# Altium integrated library Analog Devices Data Converters Digital-to-Analog Converters.IntLib: 2231 symbols (part 136 of 181)
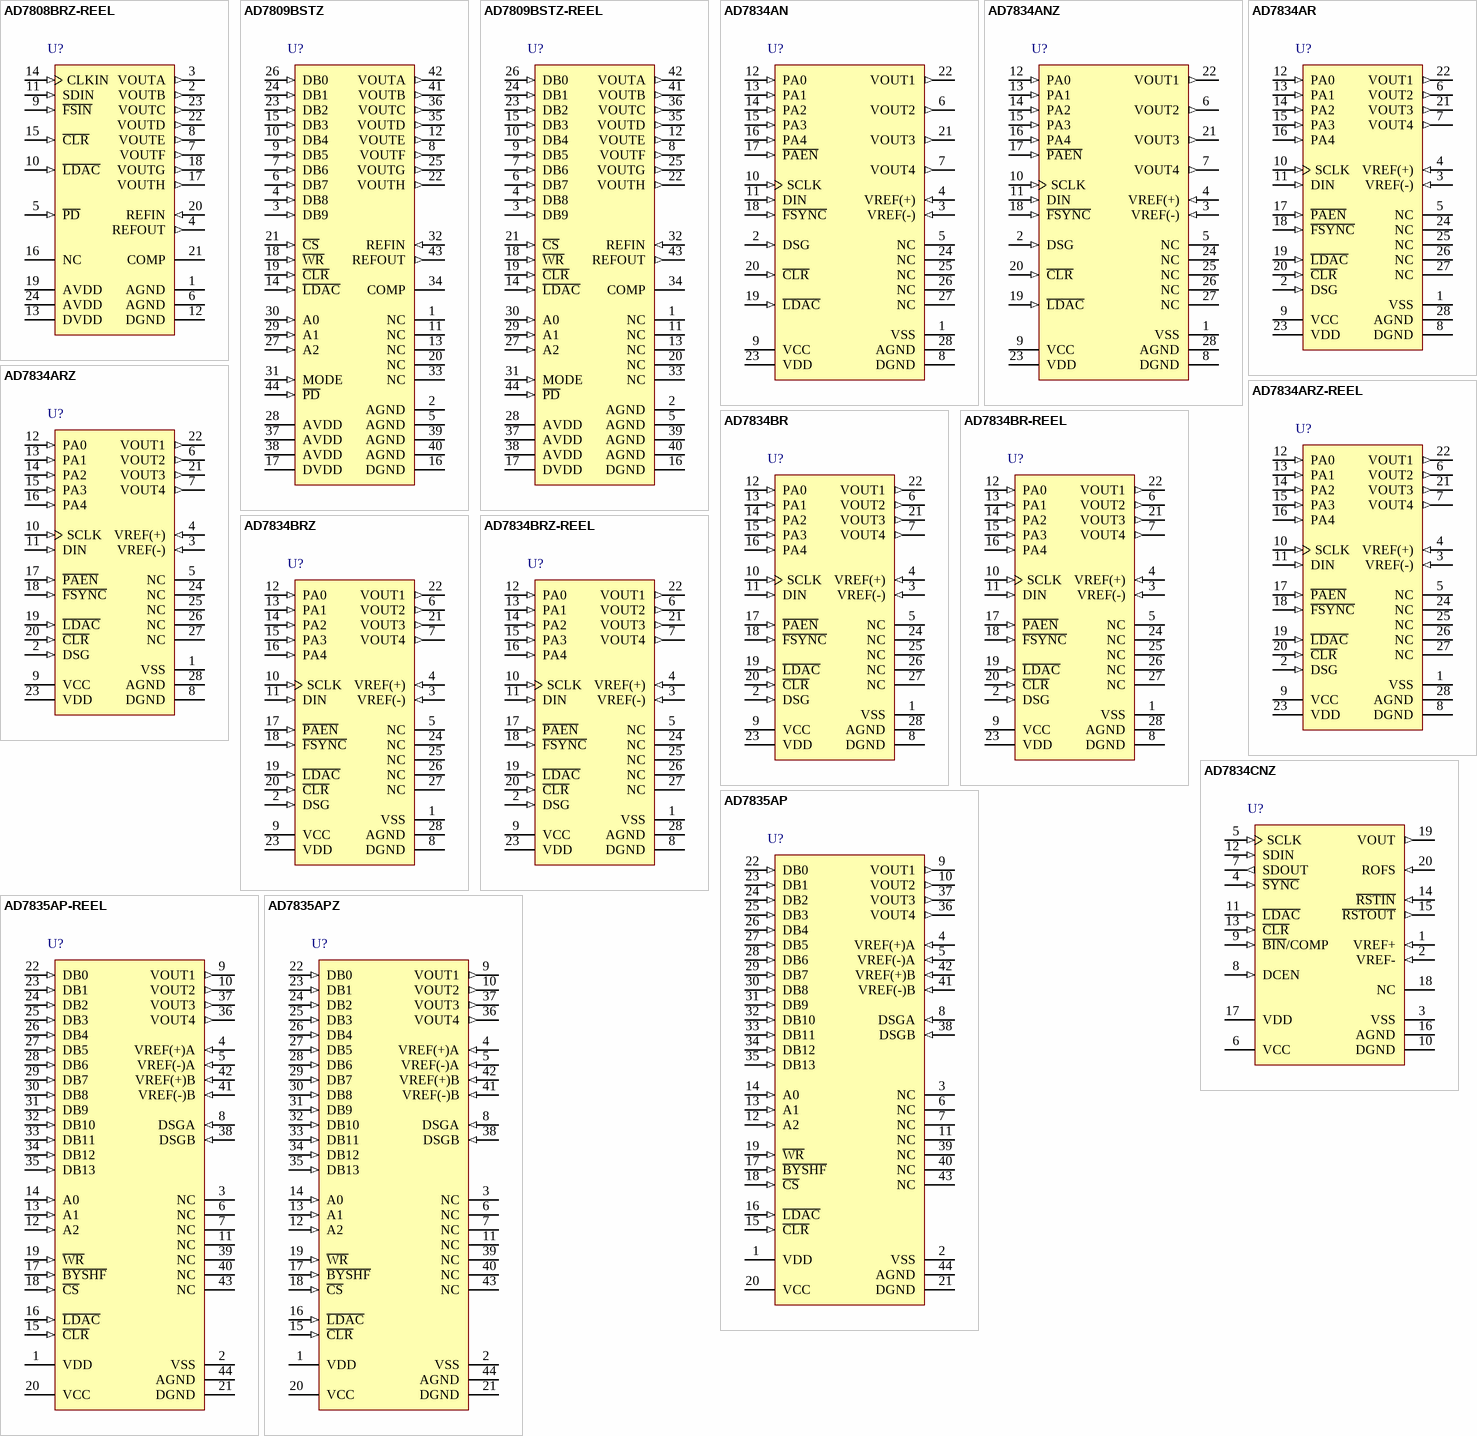
[diagram p249: symbols AD7808BRZ-REEL to AD7835APZ]

## AD7835AP
designator U?
Quad 14-Bit LC2MOS Digital-to-Analog Converter, -40 to +85 degC, P-44A, Tube; Generic Part Number: AD7835; Manufacturer: Analog Devices; PartNumber: AD7835AP; # DAC Outputs: 4; Max V+: 15.75V; Op Pwr Diss: 465mW; Resolution (Bits): 14; Settling Time: 10µs; Single Supply: No; DatasheetVersion: Rev.D; PackageVersion: 2003; PackageReference: P-44A; PackageDescription: 44-Lead Plastic Leaded Chip Carrier [PLCC]; Supplier 1: Digi-Key; Supplier Part Number 1: AD7835AP-ND; Supplier 2: Mouser; Supplier Part Number 2: 584-AD7835AP; Packing: Tube; RoHS: N; Mounting Technology: Surface Mount; Code_JEDEC: MO-047-AC; Code_IPC: PLCC-44; ComponentLink1Description: Manufacturer URL; ComponentLink1URL: http://www.analog.com/en/index.html; ComponentLink2Description: Datasheet; ComponentLink2URL: http://www.analog.com/static/imported-files/data_sheets/AD7834_7835.pdf; ComponentLink3Description: Package Specification; ComponentLink3URL: http://www.analog.com/static/imported-files/packages/533756178731793364534243243792136664964P44A.pdf; ComponentLink4Description: Product URL; ComponentLink4URL: http://www.analog.com/en/digital-to-analog-converters/da-converters/ad7835/products/product.html
footprint P-44A_N (Leaded Chip Carrier, 44-Leads, Body 16.6x16.6mm, Pitch 1.27mm, IPC Medium Density)
footprint P-44A_L (Leaded Chip Carrier, 44-Leads, Body 16.6x16.6mm, Pitch 1.27mm, IPC High Density)
footprint P-44A_M (Leaded Chip Carrier, 44-Leads, Body 16.6x16.6mm, Pitch 1.27mm, IPC Low Density)
pins: 1 VDD (power) "Positive Analog Power Supply: 15 V +/- 5% or 12 V +/- 5%.", 2 VSS (power) "Negative Analog Power Supply: -15 V +/- 5% or -12 V +/- 5%.", 3 NC "No Connect.", 4 VREF(+)A (in) "Reference Input for DAC 1 and DAC 2. These reference voltages are referred to AGND.", 5 VREF(-)A (in) "Reference Input for DAC 1 and DAC 2. These reference voltages are referred to AGND.", 6 NC "No Connect.", 7 NC "No Connect.", 8 DSGA (in) "Device Sense Ground A Input. Used in conjunction with the C\L\R\ input for power-on protection of the DACs. When C\L\R\ is low, DAC outputs VOUT1 and VOUT2 are forced to the potential on the DSGA pin.", 9 VOUT1 (out) "DAC Output.", 10 VOUT2 (out) "DAC Output.", 11 NC "No Connect.", 12 A2 (in) "Address Input. A0 and A1 are decoded to select one of the four input latches for a data transfer. A2 is used to select all four DACs simultaneously.", 13 A1 (in) "Address Input. A0 and A1 are decoded to select one of the four input latches for a data transfer. A2 is used to select all four DACs simultaneously.", 14 A0 (in) "Address Input. A0 and A1 are decoded to select one of the four input latches for a data transfer. A2 is used to select all four DACs simultaneously.", 15 ~{CLR} (in) "Asynchronous Clear Input (Level Sensitive, Active Low). When this input is brought low, all analog outputs are switched to the externally set potentials on the DSG pins (VOUT1 and VOUT2 follow DSGA, and VOUT3 and VOUT4 (See Datasheet)", 16 ~{LDAC} (in) "Load DAC Input (Level Sensitive). This input signal, in conjunction with the W\R\ and C\S\ input signals, determines how the analog outputs are updated. If L\D\A\C\ is maintained high while new data is being loaded into the (See Datasheet)", 17 ~{BYSHF} (in) "Byte Shift Input. When low, it shifts the data on DB0 to DB7 into the DB8 to DB13 half of the input register.", 18 ~{CS} (in) "Level-Triggered Chip Select Input (Active Low). The device is selected when this input is low.", 19 ~{WR} (in) "Level-Triggered Write Input (Active Low). When active, it is used in conjunction with C\S\ to write data over the input databus.", 20 VCC (power) "Logic Power Supply: 5 V +/- 5%.", 21 DGND (power) "Digital Ground.", 22 DB0 (in) "Parallel Data Input.", 23 DB1 (in) "Parallel Data Input.", 24 DB2 (in) "Parallel Data Input.", 25 DB3 (in) "Parallel Data Input.", 26 DB4 (in) "Parallel Data Input.", 27 DB5 (in) "Parallel Data Input.", 28 DB6 (in) "Parallel Data Input.", 29 DB7 (in) "Parallel Data Input.", 30 DB8 (in) "Parallel Data Input.", 31 DB9 (in) "Parallel Data Input.", 32 DB10 (in) "Parallel Data Input.", 33 DB11 (in) "Parallel Data Input.", 34 DB12 (in) "Parallel Data Input.", 35 DB13 (in) "Parallel Data Input.", 36 VOUT4 (out) "DAC Output.", 37 VOUT3 (out) "DAC Output.", 38 DSGB (in) "Device Sense Ground B Input. Used in conjunction with the C\L\R\ input for power-on protection of the DACs. When C\L\R\ is low, DAC outputs VOUT3 and VOUT4 are forced to the potential on the DSGB pin.", 39 NC "No Connect.", 40 NC "No Connect.", 41 VREF(-)B (in) "Reference Inputs for DACs 3 and 4. These reference voltages are referred to AGND.", 42 VREF(+)B (in) "Reference Inputs for DACs 3 and 4. These reference voltages are referred to AGND.", 43 NC "No Connect.", 44 AGND (power) "Analog Ground."

## AD7835AP-REEL
designator U?
Quad 14-Bit LC2MOS Digital-to-Analog Converter, -40 to +85 degC, P-44A, Reel; Generic Part Number: AD7835; Manufacturer: Analog Devices; PartNumber: AD7835AP-REEL; # DAC Outputs: 4; Max V+: 15.75V; Op Pwr Diss: 465mW; Resolution (Bits): 14; Settling Time: 10µs; Single Supply: No; DatasheetVersion: Rev.D; PackageVersion: 2003; PackageReference: P-44A; PackageDescription: 44-Lead Plastic Leaded Chip Carrier [PLCC]; Supplier 1: Mouser; Supplier Part Number 1: N/A; Packing: Reel; RoHS: N; Mounting Technology: Surface Mount; Code_JEDEC: MO-047-AC; Code_IPC: PLCC-44; ComponentLink1Description: Manufacturer URL; ComponentLink1URL: http://www.analog.com/en/index.html; ComponentLink2Description: Datasheet; ComponentLink2URL: http://www.analog.com/static/imported-files/data_sheets/AD7834_7835.pdf; ComponentLink3Description: Package Specification; ComponentLink3URL: http://www.analog.com/static/imported-files/packages/533756178731793364534243243792136664964P44A.pdf; ComponentLink4Description: Product URL; ComponentLink4URL: http://www.analog.com/en/digital-to-analog-converters/da-converters/ad7835/products/product.html
footprint P-44A_N (Leaded Chip Carrier, 44-Leads, Body 16.6x16.6mm, Pitch 1.27mm, IPC Medium Density)
footprint P-44A_L (Leaded Chip Carrier, 44-Leads, Body 16.6x16.6mm, Pitch 1.27mm, IPC High Density)
footprint P-44A_M (Leaded Chip Carrier, 44-Leads, Body 16.6x16.6mm, Pitch 1.27mm, IPC Low Density)
pins: 1 VDD (power) "Positive Analog Power Supply: 15 V +/- 5% or 12 V +/- 5%.", 2 VSS (power) "Negative Analog Power Supply: -15 V +/- 5% or -12 V +/- 5%.", 3 NC "No Connect.", 4 VREF(+)A (in) "Reference Input for DAC 1 and DAC 2. These reference voltages are referred to AGND.", 5 VREF(-)A (in) "Reference Input for DAC 1 and DAC 2. These reference voltages are referred to AGND.", 6 NC "No Connect.", 7 NC "No Connect.", 8 DSGA (in) "Device Sense Ground A Input. Used in conjunction with the C\L\R\ input for power-on protection of the DACs. When C\L\R\ is low, DAC outputs VOUT1 and VOUT2 are forced to the potential on the DSGA pin.", 9 VOUT1 (out) "DAC Output.", 10 VOUT2 (out) "DAC Output.", 11 NC "No Connect.", 12 A2 (in) "Address Input. A0 and A1 are decoded to select one of the four input latches for a data transfer. A2 is used to select all four DACs simultaneously.", 13 A1 (in) "Address Input. A0 and A1 are decoded to select one of the four input latches for a data transfer. A2 is used to select all four DACs simultaneously.", 14 A0 (in) "Address Input. A0 and A1 are decoded to select one of the four input latches for a data transfer. A2 is used to select all four DACs simultaneously.", 15 ~{CLR} (in) "Asynchronous Clear Input (Level Sensitive, Active Low). When this input is brought low, all analog outputs are switched to the externally set potentials on the DSG pins (VOUT1 and VOUT2 follow DSGA, and VOUT3 and VOUT4 (See Datasheet)", 16 ~{LDAC} (in) "Load DAC Input (Level Sensitive). This input signal, in conjunction with the W\R\ and C\S\ input signals, determines how the analog outputs are updated. If L\D\A\C\ is maintained high while new data is being loaded into the (See Datasheet)", 17 ~{BYSHF} (in) "Byte Shift Input. When low, it shifts the data on DB0 to DB7 into the DB8 to DB13 half of the input register.", 18 ~{CS} (in) "Level-Triggered Chip Select Input (Active Low). The device is selected when this input is low.", 19 ~{WR} (in) "Level-Triggered Write Input (Active Low). When active, it is used in conjunction with C\S\ to write data over the input databus.", 20 VCC (power) "Logic Power Supply: 5 V +/- 5%.", 21 DGND (power) "Digital Ground.", 22 DB0 (in) "Parallel Data Input.", 23 DB1 (in) "Parallel Data Input.", 24 DB2 (in) "Parallel Data Input.", 25 DB3 (in) "Parallel Data Input.", 26 DB4 (in) "Parallel Data Input.", 27 DB5 (in) "Parallel Data Input.", 28 DB6 (in) "Parallel Data Input.", 29 DB7 (in) "Parallel Data Input.", 30 DB8 (in) "Parallel Data Input.", 31 DB9 (in) "Parallel Data Input.", 32 DB10 (in) "Parallel Data Input.", 33 DB11 (in) "Parallel Data Input.", 34 DB12 (in) "Parallel Data Input.", 35 DB13 (in) "Parallel Data Input.", 36 VOUT4 (out) "DAC Output.", 37 VOUT3 (out) "DAC Output.", 38 DSGB (in) "Device Sense Ground B Input. Used in conjunction with the C\L\R\ input for power-on protection of the DACs. When C\L\R\ is low, DAC outputs VOUT3 and VOUT4 are forced to the potential on the DSGB pin.", 39 NC "No Connect.", 40 NC "No Connect.", 41 VREF(-)B (in) "Reference Inputs for DACs 3 and 4. These reference voltages are referred to AGND.", 42 VREF(+)B (in) "Reference Inputs for DACs 3 and 4. These reference voltages are referred to AGND.", 43 NC "No Connect.", 44 AGND (power) "Analog Ground."

## AD7835APZ
designator U?
Quad 14-Bit LC2MOS Digital-to-Analog Converter, -40 to +85 degC, P-44A, Pb-Free, Tube; Generic Part Number: AD7835; Manufacturer: Analog Devices; PartNumber: AD7835APZ; # DAC Outputs: 4; Max V+: 15.75V; Op Pwr Diss: 465mW; Resolution (Bits): 14; Settling Time: 10µs; Single Supply: No; DatasheetVersion: Rev.D; PackageVersion: 2003; PackageReference: P-44A; PackageDescription: 44-Lead Plastic Leaded Chip Carrier [PLCC]; Supplier 1: Digi-Key; Supplier Part Number 1: AD7835APZ-ND; Supplier 2: Mouser; Supplier Part Number 2: 584-AD7835APZ; Packing: Tube; RoHS: Y; Mounting Technology: Surface Mount; Code_JEDEC: MO-047-AC; Code_IPC: PLCC-44; ComponentLink1Description: Manufacturer URL; ComponentLink1URL: http://www.analog.com/en/index.html; ComponentLink2Description: Datasheet; ComponentLink2URL: http://www.analog.com/static/imported-files/data_sheets/AD7834_7835.pdf; ComponentLink3Description: Package Specification; ComponentLink3URL: http://www.analog.com/static/imported-files/packages/533756178731793364534243243792136664964P44A.pdf; ComponentLink4Description: Product URL; ComponentLink4URL: http://www.analog.com/en/digital-to-analog-converters/da-converters/ad7835/products/product.html
footprint P-44A_N (Leaded Chip Carrier, 44-Leads, Body 16.6x16.6mm, Pitch 1.27mm, IPC Medium Density)
footprint P-44A_L (Leaded Chip Carrier, 44-Leads, Body 16.6x16.6mm, Pitch 1.27mm, IPC High Density)
footprint P-44A_M (Leaded Chip Carrier, 44-Leads, Body 16.6x16.6mm, Pitch 1.27mm, IPC Low Density)
pins: 1 VDD (power) "Positive Analog Power Supply: 15 V +/- 5% or 12 V +/- 5%.", 2 VSS (power) "Negative Analog Power Supply: -15 V +/- 5% or -12 V +/- 5%.", 3 NC "No Connect.", 4 VREF(+)A (in) "Reference Input for DAC 1 and DAC 2. These reference voltages are referred to AGND.", 5 VREF(-)A (in) "Reference Input for DAC 1 and DAC 2. These reference voltages are referred to AGND.", 6 NC "No Connect.", 7 NC "No Connect.", 8 DSGA (in) "Device Sense Ground A Input. Used in conjunction with the C\L\R\ input for power-on protection of the DACs. When C\L\R\ is low, DAC outputs VOUT1 and VOUT2 are forced to the potential on the DSGA pin.", 9 VOUT1 (out) "DAC Output.", 10 VOUT2 (out) "DAC Output.", 11 NC "No Connect.", 12 A2 (in) "Address Input. A0 and A1 are decoded to select one of the four input latches for a data transfer. A2 is used to select all four DACs simultaneously.", 13 A1 (in) "Address Input. A0 and A1 are decoded to select one of the four input latches for a data transfer. A2 is used to select all four DACs simultaneously.", 14 A0 (in) "Address Input. A0 and A1 are decoded to select one of the four input latches for a data transfer. A2 is used to select all four DACs simultaneously.", 15 ~{CLR} (in) "Asynchronous Clear Input (Level Sensitive, Active Low). When this input is brought low, all analog outputs are switched to the externally set potentials on the DSG pins (VOUT1 and VOUT2 follow DSGA, and VOUT3 and VOUT4 (See Datasheet)", 16 ~{LDAC} (in) "Load DAC Input (Level Sensitive). This input signal, in conjunction with the W\R\ and C\S\ input signals, determines how the analog outputs are updated. If L\D\A\C\ is maintained high while new data is being loaded into the (See Datasheet)", 17 ~{BYSHF} (in) "Byte Shift Input. When low, it shifts the data on DB0 to DB7 into the DB8 to DB13 half of the input register.", 18 ~{CS} (in) "Level-Triggered Chip Select Input (Active Low). The device is selected when this input is low.", 19 ~{WR} (in) "Level-Triggered Write Input (Active Low). When active, it is used in conjunction with C\S\ to write data over the input databus.", 20 VCC (power) "Logic Power Supply: 5 V +/- 5%.", 21 DGND (power) "Digital Ground.", 22 DB0 (in) "Parallel Data Input.", 23 DB1 (in) "Parallel Data Input.", 24 DB2 (in) "Parallel Data Input.", 25 DB3 (in) "Parallel Data Input.", 26 DB4 (in) "Parallel Data Input.", 27 DB5 (in) "Parallel Data Input.", 28 DB6 (in) "Parallel Data Input.", 29 DB7 (in) "Parallel Data Input.", 30 DB8 (in) "Parallel Data Input.", 31 DB9 (in) "Parallel Data Input.", 32 DB10 (in) "Parallel Data Input.", 33 DB11 (in) "Parallel Data Input.", 34 DB12 (in) "Parallel Data Input.", 35 DB13 (in) "Parallel Data Input.", 36 VOUT4 (out) "DAC Output.", 37 VOUT3 (out) "DAC Output.", 38 DSGB (in) "Device Sense Ground B Input. Used in conjunction with the C\L\R\ input for power-on protection of the DACs. When C\L\R\ is low, DAC outputs VOUT3 and VOUT4 are forced to the potential on the DSGB pin.", 39 NC "No Connect.", 40 NC "No Connect.", 41 VREF(-)B (in) "Reference Inputs for DACs 3 and 4. These reference voltages are referred to AGND.", 42 VREF(+)B (in) "Reference Inputs for DACs 3 and 4. These reference voltages are referred to AGND.", 43 NC "No Connect.", 44 AGND (power) "Analog Ground."

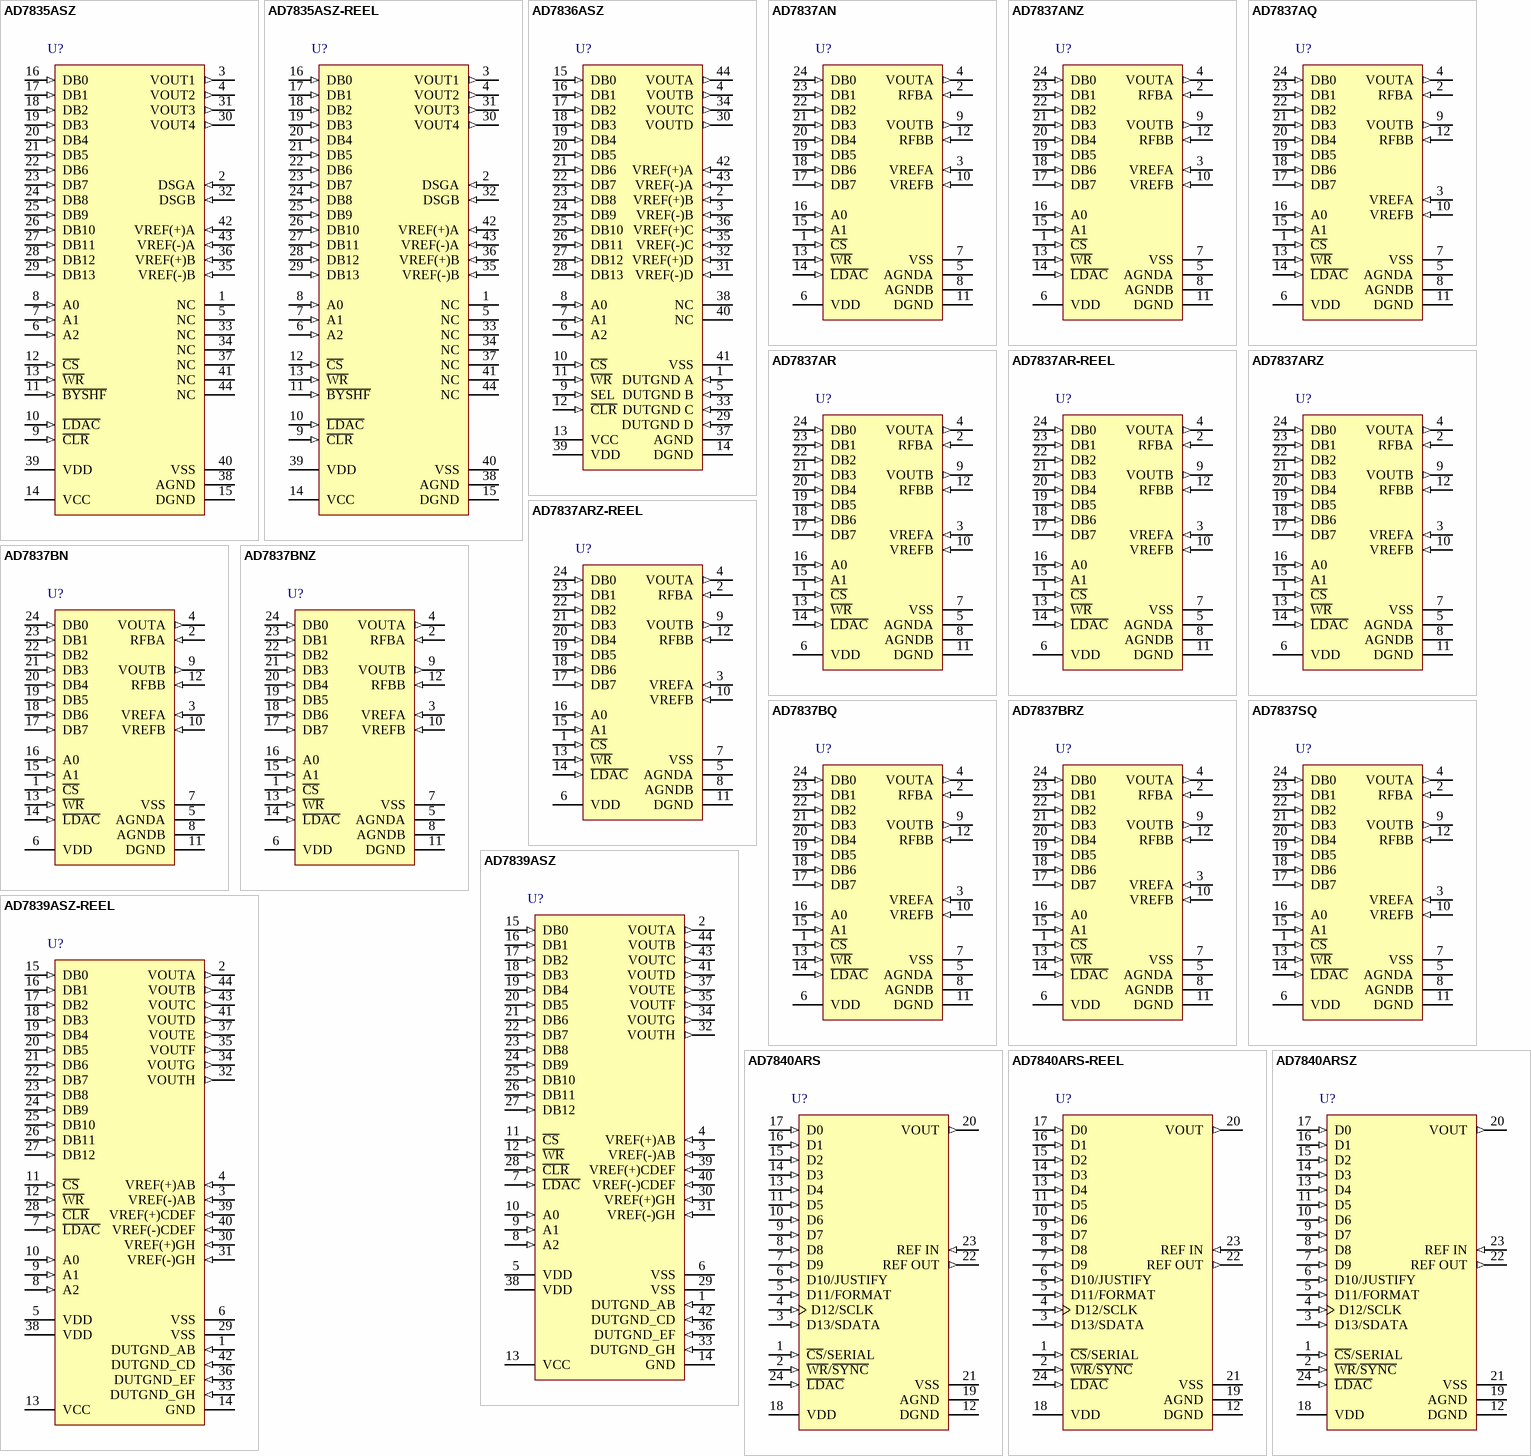
[diagram p75: symbols AD7835ASZ to AD7840ARSZ]

## AD7835ASZ
designator U?
Quad 14-Bit LC2MOS Digital-to-Analog Converter, 0 to +70 degC, S-44-2, Pb-Free, Tray; Generic Part Number: AD7835; Manufacturer: Analog Devices; PartNumber: AD7835ASZ; # DAC Outputs: 4; Max V+: 15.75V; Op Pwr Diss: 465mW; Resolution (Bits): 14; Settling Time: 10µs; Single Supply: No; DatasheetVersion: Rev.D; PackageVersion: 041807-A; PackageReference: S-44-2; PackageDescription: 44-Lead Metric Quad Flat Package [MQFP]; Supplier 1: Digi-Key; Supplier Part Number 1: AD7835ASZ-ND; Supplier 2: Newark; Supplier Part Number 2: 59K5624; Supplier 3: Mouser; Supplier Part Number 3: 584-AD7835ASZ; Packing: Tray; RoHS: Y; Mounting Technology: Surface Mount; Code_JEDEC: MO-122-AA-1; ComponentLink1Description: Manufacturer URL; ComponentLink1URL: http://www.analog.com/en/index.html; ComponentLink2Description: Datasheet; ComponentLink2URL: http://www.analog.com/static/imported-files/data_sheets/AD7834_7835.pdf; ComponentLink3Description: Package Specification; ComponentLink3URL: http://www.analog.com/static/imported-files/packages/209183S_44_2.pdf; ComponentLink4Description: Product URL; ComponentLink4URL: http://www.analog.com/en/digital-to-analog-converters/da-converters/ad7835/products/product.html
footprint S-44-2_N (QFP, 44-Leads, Body 10x10mm, Pitch 0.8mm, IPC Medium Density)
footprint S-44-2_L (QFP, 44-Leads, Body 10x10mm, Pitch 0.8mm, IPC High Density)
footprint S-44-2_M (QFP, 44-Leads, Body 10x10mm, Pitch 0.8mm, IPC Low Density)
pins: 1 NC "No Connect.", 2 DSGA (in) "Device Sense Ground A Input. Used in conjunction with the C\L\R\ input for power-on protection of the DACs. When C\L\R\ is low, DAC outputs VOUT1 and VOUT2 are forced to the potential on the DSGA pin.", 3 VOUT1 (out) "DAC Output.", 4 VOUT2 (out) "DAC Output.", 5 NC "No Connect.", 6 A2 (in) "Address Input. A2 is used to select all four DACs simultaneously.", 7 A1 (in) "Address Input. A1 is decoded to select one of the four input latches for a data transfer.", 8 A0 (in) "Address Input. A0 is decoded to select one of the four input latches for a data transfer.", 9 ~{CLR} (in) "Asynchronous Clear Input (Level Sensitive, Active Low). When this input is brought low, all analog outputs are switched to the externally set potentials on the DSG pins (VOUT1 and VOUT2 follow DSGA, and VOUT3 and VOUT4 (See Datasheet)", 10 ~{LDAC} (in) "Load DAC Input (Level Sensitive). This input signal, in conjunction with the W\R\ and C\S\ input signals, determines how the analog outputs are updated. If L\D\A\C\ is maintained high while new data is being loaded into the (See Datasheet)", 11 ~{BYSHF} (in) "Byte Shift Input. When low, it shifts the data on DB0 to DB7 into the DB8 to DB13 half of the input register.", 12 ~{CS} (in) "Level-Triggered Chip Select Input (Active Low). The device is selected when this input is low.", 13 ~{WR} (in) "Level-Triggered Write Input (Active Low). When active, it is used in conjunction with C\S\ to write data over the input databus.", 14 VCC (power) "Logic Power Supply: 5 V +/- 5%.", 15 DGND (power) "Digital Ground.", 16 DB0 (in) "Parallel Data Input. The AD7835 can accept a straight 14-bit parallel word on DB0 to DB13, where DB13 is the MSB and the B\Y\S\H\F\ input is hardwired to a logic high. Alternatively for byte loading, the bottom eight data (See Datasheet)", 17 DB1 (in) "Parallel Data Input. The AD7835 can accept a straight 14-bit parallel word on DB0 to DB13, where DB13 is the MSB and the B\Y\S\H\F\ input is hardwired to a logic high. Alternatively for byte loading, the bottom eight data (See Datasheet)", 18 DB2 (in) "Parallel Data Input. The AD7835 can accept a straight 14-bit parallel word on DB0 to DB13, where DB13 is the MSB and the B\Y\S\H\F\ input is hardwired to a logic high. Alternatively for byte loading, the bottom eight data (See Datasheet)", 19 DB3 (in) "Parallel Data Input. The AD7835 can accept a straight 14-bit parallel word on DB0 to DB13, where DB13 is the MSB and the B\Y\S\H\F\ input is hardwired to a logic high. Alternatively for byte loading, the bottom eight data (See Datasheet)", 20 DB4 (in) "Parallel Data Input. The AD7835 can accept a straight 14-bit parallel word on DB0 to DB13, where DB13 is the MSB and the B\Y\S\H\F\ input is hardwired to a logic high. Alternatively for byte loading, the bottom eight data (See Datasheet)", 21 DB5 (in) "Parallel Data Input. The AD7835 can accept a straight 14-bit parallel word on DB0 to DB13, where DB13 is the MSB and the B\Y\S\H\F\ input is hardwired to a logic high. Alternatively for byte loading, the bottom eight data (See Datasheet)", 22 DB6 (in) "Parallel Data Input. The AD7835 can accept a straight 14-bit parallel word on DB0 to DB13, where DB13 is the MSB and the B\Y\S\H\F\ input is hardwired to a logic high. Alternatively for byte loading, the bottom eight data (See Datasheet)", 23 DB7 (in) "Parallel Data Input. The AD7835 can accept a straight 14-bit parallel word on DB0 to DB13, where DB13 is the MSB and the B\Y\S\H\F\ input is hardwired to a logic high. Alternatively for byte loading, the bottom eight data (See Datasheet)", 24 DB8 (in) "Parallel Data Input. The AD7835 can accept a straight 14-bit parallel word on DB0 to DB13, where DB13 is the MSB and the B\Y\S\H\F\ input is hardwired to a logic high. Alternatively for byte loading, the bottom eight data (See Datasheet)", 25 DB9 (in) "Parallel Data Input. The AD7835 can accept a straight 14-bit parallel word on DB0 to DB13, where DB13 is the MSB and the B\Y\S\H\F\ input is hardwired to a logic high. Alternatively for byte loading, the bottom eight data (See Datasheet)", 26 DB10 (in) "Parallel Data Input. The AD7835 can accept a straight 14-bit parallel word on DB0 to DB13, where DB13 is the MSB and the B\Y\S\H\F\ input is hardwired to a logic high. Alternatively for byte loading, the bottom eight data (See Datasheet)", 27 DB11 (in) "Parallel Data Input. The AD7835 can accept a straight 14-bit parallel word on DB0 to DB13, where DB13 is the MSB and the B\Y\S\H\F\ input is hardwired to a logic high. Alternatively for byte loading, the bottom eight data (See Datasheet)", 28 DB12 (in) "Parallel Data Input. The AD7835 can accept a straight 14-bit parallel word on DB0 to DB13, where DB13 is the MSB and the B\Y\S\H\F\ input is hardwired to a logic high. Alternatively for byte loading, the bottom eight data (See Datasheet)", 29 DB13 (in) "Parallel Data Input. The AD7835 can accept a straight 14-bit parallel word on DB0 to DB13, where DB13 is the MSB and the B\Y\S\H\F\ input is hardwired to a logic high. Alternatively for byte loading, the bottom eight data (See Datasheet)", 30 VOUT4 (out) "DAC Output.", 31 VOUT3 (out) "DAC Output.", 32 DSGB (in) "Device Sense Ground B Input. Used in conjunction with the C\L\R\ input for power-on protection of the DACs. When C\L\R\ is low, DAC outputs VOUT3 and VOUT4 are forced to the potential on the DSGB pin.", 33 NC "No Connect.", 34 NC "No Connect.", 35 VREF(-)B (in) "Reference Input for DACs 3 and 4. This reference voltage is referred to AGND.", 36 VREF(+)B (in) "Reference Input for DACs 3 and 4. This reference voltage is referred to AGND.", 37 NC "No Connect.", 38 AGND (power) "Analog Ground.", 39 VDD (power) "Positive Analog Power Supply: 15 V +/- 5% or 12 V +/- 5%.", 40 VSS (power) "Negative Analog Power Supply: -15 V +/- 5% or -12 V +/- 5%.", 41 NC "No Connect.", 42 VREF(+)A (in) "Reference Input for DAC 1 and DAC 2. This reference voltage is referred to AGND.", 43 VREF(-)A (in) "Reference Input for DAC 1 and DAC 2. This reference voltage is referred to AGND.", 44 NC "No Connect."

## AD7835ASZ-REEL
designator U?
Quad 14-Bit LC2MOS Digital-to-Analog Converter, 0 to +70 degC, S-44-2, Pb-Free, Reel; Generic Part Number: AD7835; Manufacturer: Analog Devices; PartNumber: AD7835ASZ-REEL; # DAC Outputs: 4; Max V+: 15.75V; Op Pwr Diss: 465mW; Resolution (Bits): 14; Settling Time: 10µs; Single Supply: No; DatasheetVersion: Rev.D; PackageVersion: 041807-A; PackageReference: S-44-2; PackageDescription: 44-Lead Metric Quad Flat Package [MQFP]; Supplier 1: Digi-Key; Supplier Part Number 1: AD7835ASZ-REEL-ND; Supplier 2: Mouser; Supplier Part Number 2: 584-AD7835ASZ-R; Packing: Reel; RoHS: Y; Mounting Technology: Surface Mount; Code_JEDEC: MO-122-AA-1; ComponentLink1Description: Manufacturer URL; ComponentLink1URL: http://www.analog.com/en/index.html; ComponentLink2Description: Datasheet; ComponentLink2URL: http://www.analog.com/static/imported-files/data_sheets/AD7834_7835.pdf; ComponentLink3Description: Package Specification; ComponentLink3URL: http://www.analog.com/static/imported-files/packages/209183S_44_2.pdf; ComponentLink4Description: Product URL; ComponentLink4URL: http://www.analog.com/en/digital-to-analog-converters/da-converters/ad7835/products/product.html
footprint S-44-2_N (QFP, 44-Leads, Body 10x10mm, Pitch 0.8mm, IPC Medium Density)
footprint S-44-2_L (QFP, 44-Leads, Body 10x10mm, Pitch 0.8mm, IPC High Density)
footprint S-44-2_M (QFP, 44-Leads, Body 10x10mm, Pitch 0.8mm, IPC Low Density)
pins: 1 NC "No Connect.", 2 DSGA (in) "Device Sense Ground A Input. Used in conjunction with the C\L\R\ input for power-on protection of the DACs. When C\L\R\ is low, DAC outputs VOUT1 and VOUT2 are forced to the potential on the DSGA pin.", 3 VOUT1 (out) "DAC Output.", 4 VOUT2 (out) "DAC Output.", 5 NC "No Connect.", 6 A2 (in) "Address Input. A2 is used to select all four DACs simultaneously.", 7 A1 (in) "Address Input. A1 is decoded to select one of the four input latches for a data transfer.", 8 A0 (in) "Address Input. A0 is decoded to select one of the four input latches for a data transfer.", 9 ~{CLR} (in) "Asynchronous Clear Input (Level Sensitive, Active Low). When this input is brought low, all analog outputs are switched to the externally set potentials on the DSG pins (VOUT1 and VOUT2 follow DSGA, and VOUT3 and VOUT4 (See Datasheet)", 10 ~{LDAC} (in) "Load DAC Input (Level Sensitive). This input signal, in conjunction with the W\R\ and C\S\ input signals, determines how the analog outputs are updated. If L\D\A\C\ is maintained high while new data is being loaded into the (See Datasheet)", 11 ~{BYSHF} (in) "Byte Shift Input. When low, it shifts the data on DB0 to DB7 into the DB8 to DB13 half of the input register.", 12 ~{CS} (in) "Level-Triggered Chip Select Input (Active Low). The device is selected when this input is low.", 13 ~{WR} (in) "Level-Triggered Write Input (Active Low). When active, it is used in conjunction with C\S\ to write data over the input databus.", 14 VCC (power) "Logic Power Supply: 5 V +/- 5%.", 15 DGND (power) "Digital Ground.", 16 DB0 (in) "Parallel Data Input. The AD7835 can accept a straight 14-bit parallel word on DB0 to DB13, where DB13 is the MSB and the B\Y\S\H\F\ input is hardwired to a logic high. Alternatively for byte loading, the bottom eight data (See Datasheet)", 17 DB1 (in) "Parallel Data Input. The AD7835 can accept a straight 14-bit parallel word on DB0 to DB13, where DB13 is the MSB and the B\Y\S\H\F\ input is hardwired to a logic high. Alternatively for byte loading, the bottom eight data (See Datasheet)", 18 DB2 (in) "Parallel Data Input. The AD7835 can accept a straight 14-bit parallel word on DB0 to DB13, where DB13 is the MSB and the B\Y\S\H\F\ input is hardwired to a logic high. Alternatively for byte loading, the bottom eight data (See Datasheet)", 19 DB3 (in) "Parallel Data Input. The AD7835 can accept a straight 14-bit parallel word on DB0 to DB13, where DB13 is the MSB and the B\Y\S\H\F\ input is hardwired to a logic high. Alternatively for byte loading, the bottom eight data (See Datasheet)", 20 DB4 (in) "Parallel Data Input. The AD7835 can accept a straight 14-bit parallel word on DB0 to DB13, where DB13 is the MSB and the B\Y\S\H\F\ input is hardwired to a logic high. Alternatively for byte loading, the bottom eight data (See Datasheet)", 21 DB5 (in) "Parallel Data Input. The AD7835 can accept a straight 14-bit parallel word on DB0 to DB13, where DB13 is the MSB and the B\Y\S\H\F\ input is hardwired to a logic high. Alternatively for byte loading, the bottom eight data (See Datasheet)", 22 DB6 (in) "Parallel Data Input. The AD7835 can accept a straight 14-bit parallel word on DB0 to DB13, where DB13 is the MSB and the B\Y\S\H\F\ input is hardwired to a logic high. Alternatively for byte loading, the bottom eight data (See Datasheet)", 23 DB7 (in) "Parallel Data Input. The AD7835 can accept a straight 14-bit parallel word on DB0 to DB13, where DB13 is the MSB and the B\Y\S\H\F\ input is hardwired to a logic high. Alternatively for byte loading, the bottom eight data (See Datasheet)", 24 DB8 (in) "Parallel Data Input. The AD7835 can accept a straight 14-bit parallel word on DB0 to DB13, where DB13 is the MSB and the B\Y\S\H\F\ input is hardwired to a logic high. Alternatively for byte loading, the bottom eight data (See Datasheet)", 25 DB9 (in) "Parallel Data Input. The AD7835 can accept a straight 14-bit parallel word on DB0 to DB13, where DB13 is the MSB and the B\Y\S\H\F\ input is hardwired to a logic high. Alternatively for byte loading, the bottom eight data (See Datasheet)", 26 DB10 (in) "Parallel Data Input. The AD7835 can accept a straight 14-bit parallel word on DB0 to DB13, where DB13 is the MSB and the B\Y\S\H\F\ input is hardwired to a logic high. Alternatively for byte loading, the bottom eight data (See Datasheet)", 27 DB11 (in) "Parallel Data Input. The AD7835 can accept a straight 14-bit parallel word on DB0 to DB13, where DB13 is the MSB and the B\Y\S\H\F\ input is hardwired to a logic high. Alternatively for byte loading, the bottom eight data (See Datasheet)", 28 DB12 (in) "Parallel Data Input. The AD7835 can accept a straight 14-bit parallel word on DB0 to DB13, where DB13 is the MSB and the B\Y\S\H\F\ input is hardwired to a logic high. Alternatively for byte loading, the bottom eight data (See Datasheet)", 29 DB13 (in) "Parallel Data Input. The AD7835 can accept a straight 14-bit parallel word on DB0 to DB13, where DB13 is the MSB and the B\Y\S\H\F\ input is hardwired to a logic high. Alternatively for byte loading, the bottom eight data (See Datasheet)", 30 VOUT4 (out) "DAC Output.", 31 VOUT3 (out) "DAC Output.", 32 DSGB (in) "Device Sense Ground B Input. Used in conjunction with the C\L\R\ input for power-on protection of the DACs. When C\L\R\ is low, DAC outputs VOUT3 and VOUT4 are forced to the potential on the DSGB pin.", 33 NC "No Connect.", 34 NC "No Connect.", 35 VREF(-)B (in) "Reference Input for DACs 3 and 4. This reference voltage is referred to AGND.", 36 VREF(+)B (in) "Reference Input for DACs 3 and 4. This reference voltage is referred to AGND.", 37 NC "No Connect.", 38 AGND (power) "Analog Ground.", 39 VDD (power) "Positive Analog Power Supply: 15 V +/- 5% or 12 V +/- 5%.", 40 VSS (power) "Negative Analog Power Supply: -15 V +/- 5% or -12 V +/- 5%.", 41 NC "No Connect.", 42 VREF(+)A (in) "Reference Input for DAC 1 and DAC 2. This reference voltage is referred to AGND.", 43 VREF(-)A (in) "Reference Input for DAC 1 and DAC 2. This reference voltage is referred to AGND.", 44 NC "No Connect."

## AD7836ASZ
designator U?
Quad 14-Bit LC2MOS Digital-to-Analog Converter, -40 to +85 degC, S-44-2, Pb-Free, Tray; Generic Part Number: AD7836; Manufacturer: Analog Devices; PartNumber: AD7836ASZ; # DAC Outputs: 4; Max V+: 15.75V; Op Pwr Diss: 460mW; Resolution (Bits): 14; Settling Time: 16µs; Single Supply: No; DatasheetVersion: Rev.A; PackageVersion: 041807-A; PackageReference: S-44-2; PackageDescription: 44-Lead Metric Quad Flat Package [MQFP]; Supplier 1: Digi-Key; Supplier Part Number 1: AD7836ASZ-ND; Supplier 2: Newark; Supplier Part Number 2: 59K5626; Supplier 3: Mouser; Supplier Part Number 3: 584-AD7836ASZ; Packing: Tray; RoHS: Y; Mounting Technology: Surface Mount; Code_JEDEC: MO-122-AA-1; ComponentLink1Description: Manufacturer URL; ComponentLink1URL: http://www.analog.com/en/index.html; ComponentLink2Description: Datasheet; ComponentLink2URL: http://www.analog.com/static/imported-files/data_sheets/AD7836.pdf; ComponentLink3Description: Package Specification; ComponentLink3URL: http://www.analog.com/static/imported-files/packages/209183S_44_2.pdf; ComponentLink4Description: Product URL; ComponentLink4URL: http://www.analog.com/en/digital-to-analog-converters/da-converters/ad7836/products/product.html
footprint S-44-2_N (QFP, 44-Leads, Body 10x10mm, Pitch 0.8mm, IPC Medium Density)
footprint S-44-2_L (QFP, 44-Leads, Body 10x10mm, Pitch 0.8mm, IPC High Density)
footprint S-44-2_M (QFP, 44-Leads, Body 10x10mm, Pitch 0.8mm, IPC Low Density)
pins: 1 DUTGND A (in) "Device Sense Ground for DAC A. Vout A is referenced to the voltage applied to this pin.", 2 VREF(+)B (in) "Reference Inputs for DAC B. These reference voltages are referred to AGND.", 3 VREF(-)B (in) "Reference Inputs for DAC B. These reference voltages are referred to AGND.", 4 VOUTB (out) "DAC Output.", 5 DUTGND B (in) "Device Sense Ground for DAC B. Vout B is referenced to the voltage applied to this pin.", 6 A2 (in) "Address input. A2 is decoded to select one of the five input latches for a data transfer.", 7 A1 (in) "Address input. A1 is decoded to select one of the five input latches for a data transfer.", 8 A0 (in) "Address input. A0 is decoded to select one of the five input latches for a data transfer.", 9 SEL (in) "Select pin, active high level triggered input. When the SEL input is high, the user programmed value in DATAREG E will be loaded into all DAC registers and the DAC outputs updated accordingly. The contents of the other DATA (See Datasheet)", 10 ~{CS} (in) "Level-Triggered Chip Select Input (active low). The device is selected when this input is low.", 11 ~{WR} (in) "Level-Triggered Write Input (active low), when active and used in conjunction with CS to write data to the AD7836 input buffer. Data is latched into the selected data register on the rising edge of W\R\.", 12 ~{CLR} (in) "Asynchronous Clear Input (level sensitive, active low). When this input is low, all analog outputs are switched to the externally set potential on the DUTGND pin. The contents of data registers A to E are not affected when (See Datasheet)", 13 VCC (power) "Logic Power Supply; +5 V +/- 5%.", 14 DGND (power) "Digital Ground.", 15 DB0 (in) "Parallel Data Input. DB0 is the LSB.", 16 DB1 (in) "Parallel Data Input.", 17 DB2 (in) "Parallel Data Input.", 18 DB3 (in) "Parallel Data Input.", 19 DB4 (in) "Parallel Data Input.", 20 DB5 (in) "Parallel Data Input.", 21 DB6 (in) "Parallel Data Input.", 22 DB7 (in) "Parallel Data Input.", 23 DB8 (in) "Parallel Data Input.", 24 DB9 (in) "Parallel Data Input.", 25 DB10 (in) "Parallel Data Input.", 26 DB11 (in) "Parallel Data Input.", 27 DB12 (in) "Parallel Data Input.", 28 DB13 (in) "Parallel Data Input. DB13 is the MSB.", 29 DUTGND D (in) "Device Sense Ground for DAC D. Vout D is referenced to the voltage applied to this pin.", 30 VOUTD (out) "DAC Output.", 31 VREF(-)D (in) "Reference Inputs for DAC D. These reference voltages are referred to AGND.", 32 VREF(+)D (in) "Reference Inputs for DAC D. These reference voltages are referred to AGND.", 33 DUTGND C (in) "Device Sense Ground for DAC C. Vout C is referenced to the voltage applied to this pin.", 34 VOUTC (out) "DAC Output.", 35 VREF(-)C (in) "Reference Inputs for DAC C. These reference voltages are referred to AGND.", 36 VREF(+)C (in) "Reference Inputs for DAC C. These reference voltages are referred to AGND.", 37 AGND (power) "Analog Ground.", 38 NC "NO CONNECT", 39 VDD (power) "Positive Analog Power Supply; +15 V +/- 5%.", 40 NC "NO CONNECT", 41 VSS (power) "Negative Analog Power Supply; -15 V +/- 5%.", 42 VREF(+)A (in) "Reference Inputs for DAC A. These reference voltages are referred to AGND.", 43 VREF(-)A (in) "Reference Inputs for DAC A. These reference voltages are referred to AGND.", 44 VOUTA (out) "DAC Output."

## AD7837AN
designator U?
Dual 12-Bit LC2MOS Complete MDAC, -40 to +85 degC, N-24-1, Tube; Generic Part Number: AD7837; Manufacturer: Analog Devices; PartNumber: AD7837AN; # DAC Outputs: 2; Max V+: 15.75V; Op Pwr Diss: 210mW; Resolution (Bits): 12; Settling Time: 4µs; Single Supply: No; DatasheetVersion: C01007a-0-8/00 (rev. C); PackageVersion: 071006-A; PackageReference: N-24-1; PackageDescription: 24-Lead Plastic Dual In-Line Package [PDIP] Narrow Body; Supplier 1: Digi-Key; Supplier Part Number 1: AD7837AN-ND; Supplier 2: Mouser; Supplier Part Number 2: 584-AD7837AN; Packing: Tube; RoHS: N; Mounting Technology: Through Hole; Code_JEDEC: MS-001; ComponentLink1Description: Manufacturer URL; ComponentLink1URL: http://www.analog.com/en/index.html; ComponentLink2Description: Datasheet; ComponentLink2URL: http://www.analog.com/static/imported-files/data_sheets/AD7837_7847.pdf; ComponentLink3Description: Package Specification; ComponentLink3URL: http://www.analog.com/static/imported-files/packages/50726455539629N_24_1.pdf; ComponentLink4Description: Product URL; ComponentLink4URL: http://www.analog.com/en/digital-to-analog-converters/da-converters/ad7837/products/product.html
footprint N-24-1 (DIP, 24-Leads, Row Spacing 7.62mm, Pitch 2.54mm, Body 31.9x6.6mm)
pins: 1 ~{CS} (in) "Chip Select. Active low logic input. The device is selected when this input is active.", 2 RFBA (in) "Amplifier Feedback Resistor for DAC A.", 3 VREFA (in) "Reference Input Voltage for DAC A. This may be an ac or dc signal.", 4 VOUTA (out) "Analog Output Voltage from DAC A.", 5 AGNDA (power) "Analog Ground for DAC A.", 6 VDD (power) "Positive Power Supply.", 7 VSS (power) "Negative Power Supply.", 8 AGNDB (power) "Analog Ground for DAC B.", 9 VOUTB (out) "Analog Output Voltage from DAC B.", 10 VREFB (in) "Reference Input Voltage for DAC B. This may be an ac or dc signal.", 11 DGND (power) "Digital Ground. Ground reference for digital circuitry.", 12 RFBB (in) "Amplifier Feedback Resistor for DAC B.", 13 ~{WR} (in) "Write Input. W\R\ is an active low logic input which is used in conjunction with C\S\, A0 and A1 to write data to the input latches.", 14 ~{LDAC} (in) "DAC Update Logic Input. Data is transferred from the input latches to the DAC latches when L\D\A\C\ is taken low.", 15 A1 (in) "Address Input. Most significant address input for input latches (see Table II).", 16 A0 (in) "Address Input. Least significant address input for input latches (see Table II).", 17 DB7 (in) "Data Bit 7.", 18 DB6 (in) "Data Bit 6.", 19 DB5 (in) "Data Bit 5.", 20 DB4 (in) "Data Bit 4.", 21 DB3 (in) "Data Bit 3 or Data Bit 11 (MSB)", 22 DB2 (in) "Data Bit 2 or Data Bit 10", 23 DB1 (in) "Data Bit 1 or Data Bit 9", 24 DB0 (in) "Data Bit 0 (LSB) or Data Bit 8"

## AD7837ANZ
designator U?
Dual 12-Bit LC2MOS Complete MDAC, -40 to +85 degC, N-24-1, Pb-Free, Tube; Generic Part Number: AD7837; Manufacturer: Analog Devices; PartNumber: AD7837ANZ; # DAC Outputs: 2; Max V+: 15.75V; Op Pwr Diss: 210mW; Resolution (Bits): 12; Settling Time: 4µs; Single Supply: No; DatasheetVersion: C01007a-0-8/00 (rev. C); PackageVersion: 071006-A; PackageReference: N-24-1; PackageDescription: 24-Lead Plastic Dual In-Line Package [PDIP] Narrow Body; Supplier 1: Digi-Key; Supplier Part Number 1: AD7837ANZ-ND; Supplier 2: Farnell; Supplier Part Number 2: 1438619; Supplier 3: Newark; Supplier Part Number 3: 15P0881; Supplier 4: Mouser; Supplier Part Number 4: 584-AD7837ANZ; Packing: Tube; RoHS: Y; Mounting Technology: Through Hole; Code_JEDEC: MS-001; ComponentLink1Description: Manufacturer URL; ComponentLink1URL: http://www.analog.com/en/index.html; ComponentLink2Description: Datasheet; ComponentLink2URL: http://www.analog.com/static/imported-files/data_sheets/AD7837_7847.pdf; ComponentLink3Description: Package Specification; ComponentLink3URL: http://www.analog.com/static/imported-files/packages/50726455539629N_24_1.pdf; ComponentLink4Description: Product URL; ComponentLink4URL: http://www.analog.com/en/digital-to-analog-converters/da-converters/ad7837/products/product.html
footprint N-24-1 (DIP, 24-Leads, Row Spacing 7.62mm, Pitch 2.54mm, Body 31.9x6.6mm)
pins: 1 ~{CS} (in) "Chip Select. Active low logic input. The device is selected when this input is active.", 2 RFBA (in) "Amplifier Feedback Resistor for DAC A.", 3 VREFA (in) "Reference Input Voltage for DAC A. This may be an ac or dc signal.", 4 VOUTA (out) "Analog Output Voltage from DAC A.", 5 AGNDA (power) "Analog Ground for DAC A.", 6 VDD (power) "Positive Power Supply.", 7 VSS (power) "Negative Power Supply.", 8 AGNDB (power) "Analog Ground for DAC B.", 9 VOUTB (out) "Analog Output Voltage from DAC B.", 10 VREFB (in) "Reference Input Voltage for DAC B. This may be an ac or dc signal.", 11 DGND (power) "Digital Ground. Ground reference for digital circuitry.", 12 RFBB (in) "Amplifier Feedback Resistor for DAC B.", 13 ~{WR} (in) "Write Input. W\R\ is an active low logic input which is used in conjunction with C\S\, A0 and A1 to write data to the input latches.", 14 ~{LDAC} (in) "DAC Update Logic Input. Data is transferred from the input latches to the DAC latches when L\D\A\C\ is taken low.", 15 A1 (in) "Address Input. Most significant address input for input latches (see Table II).", 16 A0 (in) "Address Input. Least significant address input for input latches (see Table II).", 17 DB7 (in) "Data Bit 7.", 18 DB6 (in) "Data Bit 6.", 19 DB5 (in) "Data Bit 5.", 20 DB4 (in) "Data Bit 4.", 21 DB3 (in) "Data Bit 3 or Data Bit 11 (MSB)", 22 DB2 (in) "Data Bit 2 or Data Bit 10", 23 DB1 (in) "Data Bit 1 or Data Bit 9", 24 DB0 (in) "Data Bit 0 (LSB) or Data Bit 8"

## AD7837AQ
designator U?
Dual 12-Bit LC2MOS Complete MDAC, -40 to +85 degC, Q-24, Tube; Generic Part Number: AD7837; Manufacturer: Analog Devices; PartNumber: AD7837AQ; # DAC Outputs: 2; Max V+: 15.75V; Op Pwr Diss: 210mW; Resolution (Bits): 12; Settling Time: 4µs; Single Supply: No; DatasheetVersion: C01007a-0-8/00 (rev. C); PackageVersion: 2000; PackageReference: Q-24; PackageDescription: 24-Lead Ceramic Dual In-Line Package [CERDIP]; Supplier 1: Digi-Key; Supplier Part Number 1: AD7837AQ-ND; Supplier 2: Mouser; Supplier Part Number 2: 584-AD7837AQ; Packing: Tube; RoHS: N; Mounting Technology: Through Hole; ComponentLink1Description: Manufacturer URL; ComponentLink1URL: http://www.analog.com/en/index.html; ComponentLink2Description: Datasheet; ComponentLink2URL: http://www.analog.com/static/imported-files/data_sheets/AD7837_7847.pdf; ComponentLink3Description: Package Specification; ComponentLink3URL: http://www.analog.com/static/imported-files/data_sheets/AD7837_7847.pdf; ComponentLink4Description: Product URL; ComponentLink4URL: http://www.analog.com/en/digital-to-analog-converters/da-converters/ad7837/products/product.html
footprint Q-24 (DIP, 24-Leads, Row Spacing 7.62mm, Pitch 2.54mm, Body 31.9x6.7mm)
pins: 1 ~{CS} (in) "Chip Select. Active low logic input. The device is selected when this input is active.", 2 RFBA (in) "Amplifier Feedback Resistor for DAC A.", 3 VREFA (in) "Reference Input Voltage for DAC A. This may be an ac or dc signal.", 4 VOUTA (out) "Analog Output Voltage from DAC A.", 5 AGNDA (power) "Analog Ground for DAC A.", 6 VDD (power) "Positive Power Supply.", 7 VSS (power) "Negative Power Supply.", 8 AGNDB (power) "Analog Ground for DAC B.", 9 VOUTB (out) "Analog Output Voltage from DAC B.", 10 VREFB (in) "Reference Input Voltage for DAC B. This may be an ac or dc signal.", 11 DGND (power) "Digital Ground. Ground reference for digital circuitry.", 12 RFBB (in) "Amplifier Feedback Resistor for DAC B.", 13 ~{WR} (in) "Write Input. W\R\ is an active low logic input which is used in conjunction with C\S\, A0 and A1 to write data to the input latches.", 14 ~{LDAC} (in) "DAC Update Logic Input. Data is transferred from the input latches to the DAC latches when L\D\A\C\ is taken low.", 15 A1 (in) "Address Input. Most significant address input for input latches (see Table II).", 16 A0 (in) "Address Input. Least significant address input for input latches (see Table II).", 17 DB7 (in) "Data Bit 7.", 18 DB6 (in) "Data Bit 6.", 19 DB5 (in) "Data Bit 5.", 20 DB4 (in) "Data Bit 4.", 21 DB3 (in) "Data Bit 3 or Data Bit 11 (MSB)", 22 DB2 (in) "Data Bit 2 or Data Bit 10", 23 DB1 (in) "Data Bit 1 or Data Bit 9", 24 DB0 (in) "Data Bit 0 (LSB) or Data Bit 8"

## AD7837AR
designator U?
Dual 12-Bit LC2MOS Complete MDAC, -40 to +85 degC, RW-24, Tube; Generic Part Number: AD7837; Manufacturer: Analog Devices; PartNumber: AD7837AR; # DAC Outputs: 2; Max V+: 15.75V; Op Pwr Diss: 210mW; Resolution (Bits): 12; Settling Time: 4µs; Single Supply: No; DatasheetVersion: C01007a-0-8/00 (rev. C); PackageVersion: 060706-A; PackageReference: RW-24; PackageDescription: 24-Lead Standard Small Outline Package [SOIC_W]; Supplier 1: Digi-Key; Supplier Part Number 1: AD7837AR-ND; Supplier 2: Mouser; Supplier Part Number 2: 584-AD7837AR; Packing: Tube; RoHS: N; Mounting Technology: Surface Mount; Code_JEDEC: MS-013-AD; ComponentLink1Description: Manufacturer URL; ComponentLink1URL: http://www.analog.com/en/index.html; ComponentLink2Description: Datasheet; ComponentLink2URL: http://www.analog.com/static/imported-files/data_sheets/AD7837_7847.pdf; ComponentLink3Description: Package Specification; ComponentLink3URL: http://www.analog.com/static/imported-files/packages/33665150946139RW_24.pdf; ComponentLink4Description: Product URL; ComponentLink4URL: http://www.analog.com/en/digital-to-analog-converters/da-converters/ad7837/products/product.html
footprint RW-24_N (SOIC, 24-Leads, Body 15.4x7.5mm, Pitch 1.27mm, IPC Medium Density)
footprint RW-24_L (SOIC, 24-Leads, Body 15.4x7.5mm, Pitch 1.27mm, IPC High Density)
footprint RW-24_M (SOIC, 24-Leads, Body 15.4x7.5mm, Pitch 1.27mm, IPC Low Density)
pins: 1 ~{CS} (in) "Chip Select. Active low logic input. The device is selected when this input is active.", 2 RFBA (in) "Amplifier Feedback Resistor for DAC A.", 3 VREFA (in) "Reference Input Voltage for DAC A. This may be an ac or dc signal.", 4 VOUTA (out) "Analog Output Voltage from DAC A.", 5 AGNDA (power) "Analog Ground for DAC A.", 6 VDD (power) "Positive Power Supply.", 7 VSS (power) "Negative Power Supply.", 8 AGNDB (power) "Analog Ground for DAC B.", 9 VOUTB (out) "Analog Output Voltage from DAC B.", 10 VREFB (in) "Reference Input Voltage for DAC B. This may be an ac or dc signal.", 11 DGND (power) "Digital Ground. Ground reference for digital circuitry.", 12 RFBB (in) "Amplifier Feedback Resistor for DAC B.", 13 ~{WR} (in) "Write Input. W\R\ is an active low logic input which is used in conjunction with C\S\, A0 and A1 to write data to the input latches.", 14 ~{LDAC} (in) "DAC Update Logic Input. Data is transferred from the input latches to the DAC latches when L\D\A\C\ is taken low.", 15 A1 (in) "Address Input. Most significant address input for input latches (see Table II).", 16 A0 (in) "Address Input. Least significant address input for input latches (see Table II).", 17 DB7 (in) "Data Bit 7.", 18 DB6 (in) "Data Bit 6.", 19 DB5 (in) "Data Bit 5.", 20 DB4 (in) "Data Bit 4.", 21 DB3 (in) "Data Bit 3 or Data Bit 11 (MSB)", 22 DB2 (in) "Data Bit 2 or Data Bit 10", 23 DB1 (in) "Data Bit 1 or Data Bit 9", 24 DB0 (in) "Data Bit 0 (LSB) or Data Bit 8"

## AD7837AR-REEL
designator U?
Dual 12-Bit LC2MOS Complete MDAC, -40 to +85 degC, RW-24, Reel; Generic Part Number: AD7837; Manufacturer: Analog Devices; PartNumber: AD7837AR-REEL; # DAC Outputs: 2; Max V+: 15.75V; Op Pwr Diss: 210mW; Resolution (Bits): 12; Settling Time: 4µs; Single Supply: No; DatasheetVersion: C01007a-0-8/00 (rev. C); PackageVersion: 060706-A; PackageReference: RW-24; PackageDescription: 24-Lead Standard Small Outline Package [SOIC_W]; Supplier 1: Digi-Key; Supplier Part Number 1: AD7837AR-REEL-ND; Supplier 2: Mouser; Supplier Part Number 2: 584-AD7837AR-R; Packing: Reel; RoHS: N; Mounting Technology: Surface Mount; Code_JEDEC: MS-013-AD; ComponentLink1Description: Manufacturer URL; ComponentLink1URL: http://www.analog.com/en/index.html; ComponentLink2Description: Datasheet; ComponentLink2URL: http://www.analog.com/static/imported-files/data_sheets/AD7837_7847.pdf; ComponentLink3Description: Package Specification; ComponentLink3URL: http://www.analog.com/static/imported-files/packages/33665150946139RW_24.pdf; ComponentLink4Description: Product URL; ComponentLink4URL: http://www.analog.com/en/digital-to-analog-converters/da-converters/ad7837/products/product.html
footprint RW-24_N (SOIC, 24-Leads, Body 15.4x7.5mm, Pitch 1.27mm, IPC Medium Density)
footprint RW-24_L (SOIC, 24-Leads, Body 15.4x7.5mm, Pitch 1.27mm, IPC High Density)
footprint RW-24_M (SOIC, 24-Leads, Body 15.4x7.5mm, Pitch 1.27mm, IPC Low Density)
pins: 1 ~{CS} (in) "Chip Select. Active low logic input. The device is selected when this input is active.", 2 RFBA (in) "Amplifier Feedback Resistor for DAC A.", 3 VREFA (in) "Reference Input Voltage for DAC A. This may be an ac or dc signal.", 4 VOUTA (out) "Analog Output Voltage from DAC A.", 5 AGNDA (power) "Analog Ground for DAC A.", 6 VDD (power) "Positive Power Supply.", 7 VSS (power) "Negative Power Supply.", 8 AGNDB (power) "Analog Ground for DAC B.", 9 VOUTB (out) "Analog Output Voltage from DAC B.", 10 VREFB (in) "Reference Input Voltage for DAC B. This may be an ac or dc signal.", 11 DGND (power) "Digital Ground. Ground reference for digital circuitry.", 12 RFBB (in) "Amplifier Feedback Resistor for DAC B.", 13 ~{WR} (in) "Write Input. W\R\ is an active low logic input which is used in conjunction with C\S\, A0 and A1 to write data to the input latches.", 14 ~{LDAC} (in) "DAC Update Logic Input. Data is transferred from the input latches to the DAC latches when L\D\A\C\ is taken low.", 15 A1 (in) "Address Input. Most significant address input for input latches (see Table II).", 16 A0 (in) "Address Input. Least significant address input for input latches (see Table II).", 17 DB7 (in) "Data Bit 7.", 18 DB6 (in) "Data Bit 6.", 19 DB5 (in) "Data Bit 5.", 20 DB4 (in) "Data Bit 4.", 21 DB3 (in) "Data Bit 3 or Data Bit 11 (MSB)", 22 DB2 (in) "Data Bit 2 or Data Bit 10", 23 DB1 (in) "Data Bit 1 or Data Bit 9", 24 DB0 (in) "Data Bit 0 (LSB) or Data Bit 8"